# Altium schematic symbol library Components.SchLib: 5 symbols
Pins are listed as number, name and electrical type; pins without a type are passive.

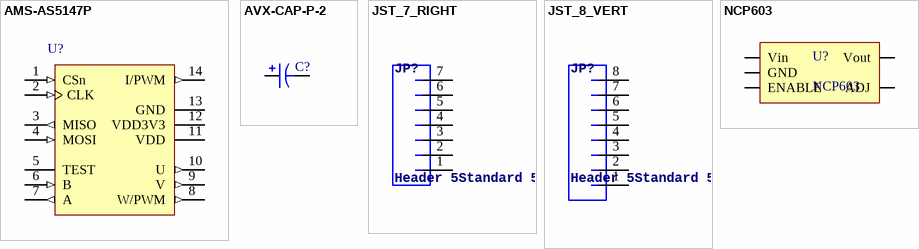
[diagram p0: symbols AMS-AS5147P to NCP603]

## AMS-AS5147P
designator U?
footprint AMS-TSSOP-14-5000X4400DE_N (TSOP, 14-Leads, Body 5.00x4.40mm, Pitch 0.65mm, IPC Medium Density)
pins: 1 CSn (in), 2 CLK (in), 3 MISO (out), 4 MOSI (in), 5 TEST, 6 B (in), 7 A (out), 8 W/PWM (out), 9 V (out), 10 U (out), 11 VDD (power) "Positive Supply Voltage, 3.0 to 5.5 V", 12 VDD3V3 (power) "3.3V Regulator output; internally regulated from VDD. Connect to VDD for 3V supply voltage. 10FF capacitor to GND required in 5V operation mode", 13 GND (power) "Negative Supply Voltage (GND)", 14 I/PWM (out) "Pulse Width Modulation output"

## AVX-CAP-P-2
designator C?
footprint AVX-CAPC7343_V (SMT Capacitor, 2 Leads, Body 7.3x4.3mm)
pins: 1, 2

## JST_7_RIGHT
designator JP?, comment Header 5Standard 5-pin 0.1" header. Use with straight break away headers (SKU : PRT-00116), right angle break away headers (PRT-00553), swiss pins (PRT-00743), machine pins (PRT-00117), and female headers (PRT-00115). Molex polarized connector foot print use with SKU : PRT-08230 with associated crimp pins and housings.
footprint JST-7-PTH
pins: 1, 2, 3, 4, 5, 6, 7

## JST_8_VERT
designator JP?, comment Header 5Standard 5-pin 0.1" header. Use with straight break away headers (SKU : PRT-00116), right angle break away headers (PRT-00553), swiss pins (PRT-00743), machine pins (PRT-00117), and female headers (PRT-00115). Molex polarized connector foot print use with SKU : PRT-08230 with associated crimp pins and housings.
footprint JST-8-PTH
footprint JST-8-SMD
pins: 1, 2, 3, 4, 5, 6, 7, 8

## NCP603
designator U?
footprint SOT95P245X110-5N (SOT23, 5-Leads, Body 2.90x2.45mm, Pitch 0.95mm, IPC Medium Density)
pins: ADJ, ENABLE, GND, Vin, Vout